# Altium schematic symbol library TF_LAN_2CH.SchLib: 1 symbol
Pins are listed as number, name and electrical type; pins without a type are passive.

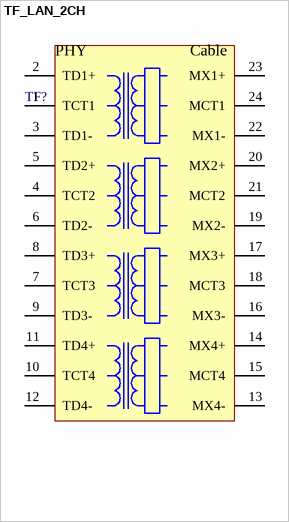
[diagram p0: symbol TF_LAN_2CH]

## TF_LAN_2CH
designator TF?
pins: 1 TCT1, 2 TD1+, 3 TD1-, 4 TCT2, 5 TD2+, 6 TD2-, 7 TCT3, 8 TD3+, 9 TD3-, 10 TCT4, 11 TD4+, 12 TD4-, 13 MX4-, 14 MX4+, 15 MCT4, 16 MX3-, 17 MX3+, 18 MCT3, 19 MX2-, 20 MX2+, 21 MCT2, 22 MX1-, 23 MX1+, 24 MCT1
text: PHY; Cable